# EAGLE library part 623310235521 (library Wuerth_Elektronik_eiCan_Pin_&_Socked_Headers_v1.3)
WR-PHD 1.27mm Dual SMT Pin Header H=1.80mm, 10 Pins
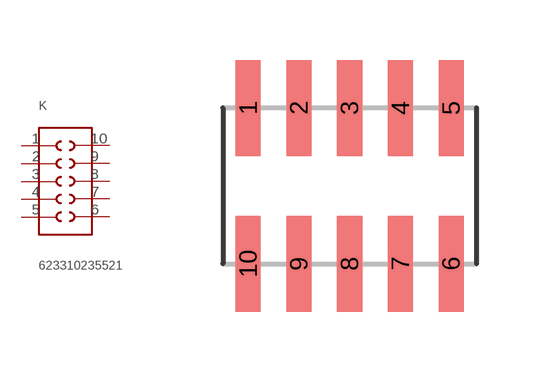
[diagram p337: symbol with the pads of 623310235521; footprint 623310235521]

Designator prefix K

## 623310235521  [623310235521]
1  1  pas
2  2  pas
3  3  pas
4  4  pas
5  5  pas
6  6  pas
7  7  pas
8  8  pas
9  9  pas
10  10  pas

## Footprint 623310235521 (pad centres in mm)
WR-PHD 1.27mm Dual SMT Pin Header H=1.80mm, 10 Pins
smd 0.63 x 2.4: 1 -2.54,1.95; 2 -1.27,1.95; 3 0,1.95; 4 1.27,1.95; 5 2.54,1.95; 6 2.54,-1.95; 7 1.27,-1.95; 8 0,-1.95; 9 -1.27,-1.95; 10 -2.54,-1.95